# EAGLE library part MINI-USB2.0-RECEPT-5POS-4-LEGS-(ST-USB-013A) (library Seeed-Connector)
320010014
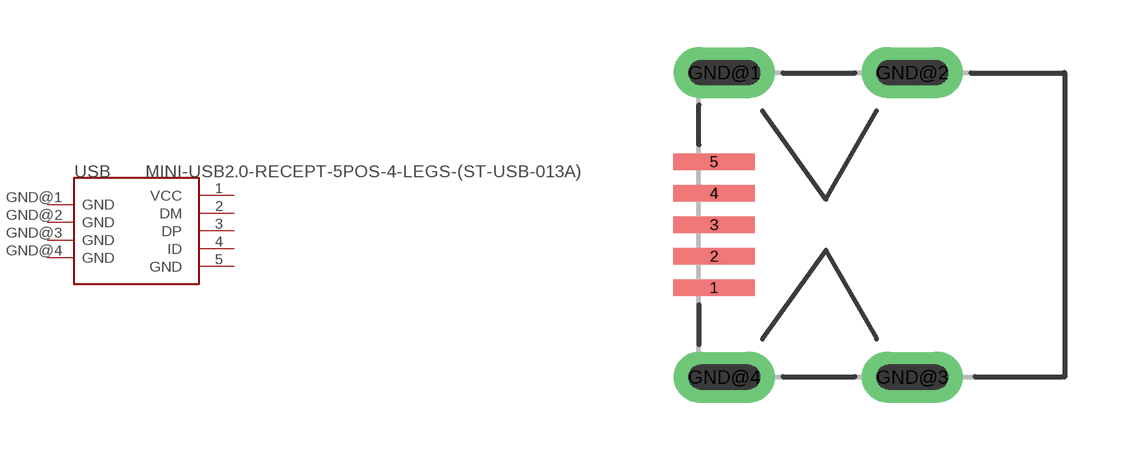
[diagram p7: symbol with the pads of MINIUSB5+4P-0.8-90D; footprint MINIUSB5+4P-0.8-90D]

Designator prefix USB

## MINI-USB2.0-RECEPT-5POS-4-LEGS-(ST-USB-013A) (MPN: ST-USB-013A; VALUE: ST-USB-013A)  [MINIUSB5+4P-0.8-90D]
1  VCC
2  DM
3  DP
4  ID
5  GND
GND@1  GND
GND@2  GND
GND@3  GND
GND@4  GND

## Footprint MINIUSB5+4P-0.8-90D (pad centres in mm)
smd 2.032 x 0.406: 1 0.381,-1.575; 2 0.381,-0.787; 3 0.381,0; 4 0.381,0.787; 5 0.381,1.575
drill 0.635 pad 1.27 long: GND@1 0.635,3.81; GND@2 5.334,3.81; GND@3 5.334,-3.81; GND@4 0.635,-3.81